# Altium footprint library flex.PcbLib: 1 footprints
Each footprint in its own frame and in the unit in brackets; x right, y up, seen from the top. Pads: shape width x height; smd on the part's side, far side on the other; paste and mask are expansions set on the pad; w line width, h text height; cw(c..) or ccw(c..) is an arc to the next point about the centre after c.
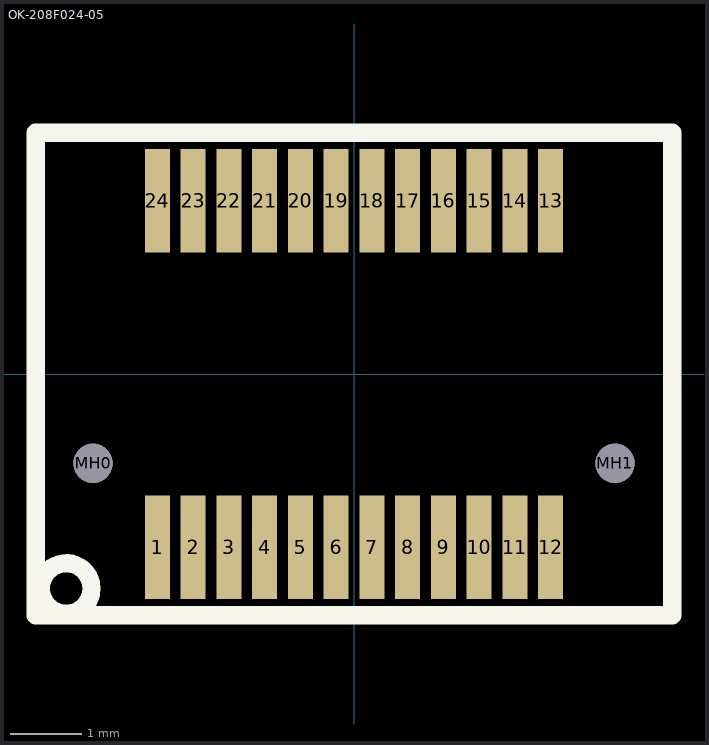
[diagram p0: the footprint, top view; thin cyan lines are the x and y axes]

## OK-208F024-05 [mm]
height 2.6
pads (26):
  rect 0.35x1.45 smd: 1(-2.75,-2.425) 2(-2.25,-2.425) 3(-1.75,-2.425) 4(-1.25,-2.425) 5(-0.75,-2.425) 6(-0.25,-2.425) 7(0.25,-2.425) 8(0.75,-2.425) 9(1.25,-2.425) 10(1.75,-2.425) 11(2.25,-2.425) 12(2.75,-2.425) 13(2.75,2.425) 14(2.25,2.425) 15(1.75,2.425) 16(1.25,2.425) 17(0.75,2.425) 18(0.25,2.425) 19(-0.25,2.425) 20(-0.75,2.425) 21(-1.25,2.425) 22(-1.75,2.425) 23(-2.25,2.425) 24(-2.75,2.425)
  round 0.55 hole 0.55 unplated mask+0: MH0(-3.65,-1.25) MH1(3.65,-1.25)
Top Overlay:
  circle w0.254: c-4.025,-3 r0.354
  lines w0.254: -4.45,-3.375 4.45,-3.375 4.45,3.375 -4.45,3.375 -4.45,-3.375
3D body: height 2.6, standoff 0, extent -4.45,-2 4.45,2